# Altium schematic symbol library rf_new.SchLib: 6 symbols
Pins are listed as number, name and electrical type; pins without a type are passive.

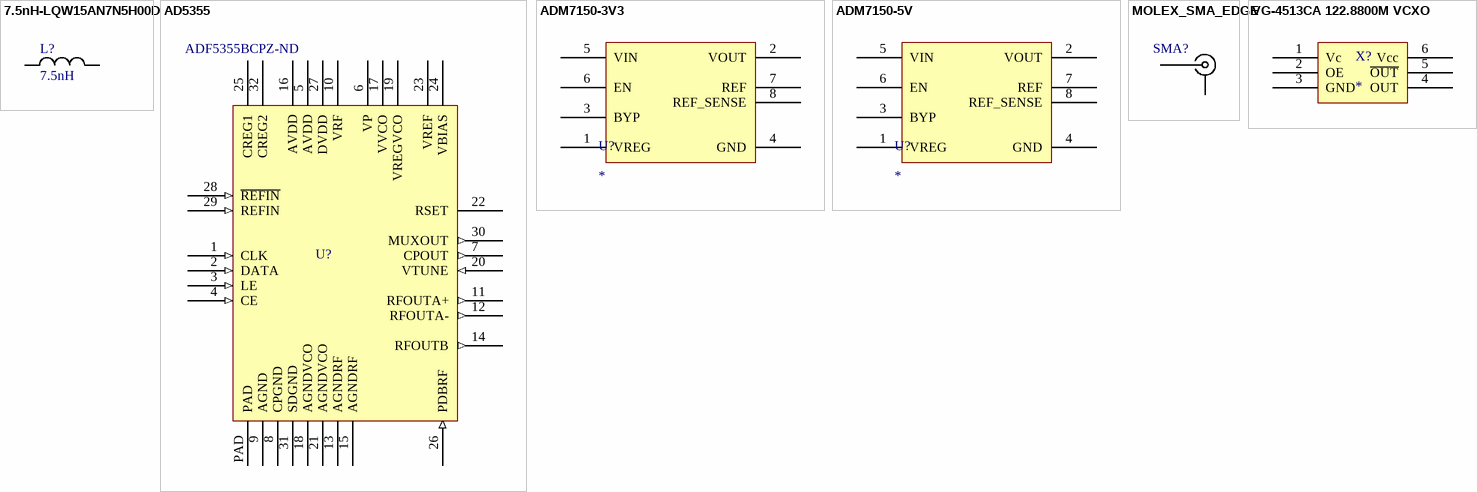
[diagram p0: symbols 7.5nH-LQW15AN7N5H00D to VG-4513CA 122.8800M VCXO]

## 7.5nH-LQW15AN7N5H00D
designator L?, comment 7.5nH
Supplier 1: Digi-Key; Supplier Part Number 1: 490-6847-1-ND
footprint 0402_INDUCTOR (Chip Inductor, 2-Leads, Body 1.00x0.50mm, IPC Medium Density)
pins: 1, 2

## AD5355
designator U?  Supplier Part Number 1: ADF5355BCPZ-ND  (hidden comment: AD5355)
Supplier 1: Digi-Key
footprint AD5355_LFCSP32 (QFN, 32-Leads, Body 5.00x5.00mm, Pitch 0.50mm, Thermal Pad 3.65x3.65mm, IPC Low Density)
pins: 1 CLK (in), 2 DATA (in), 3 LE (in), 4 CE (in), 5 AVDD (power), 6 VP (power), 7 CPOUT (out), 8 CPGND (power), 9 AGND (power), 10 VRF (power), 11 RFOUTA+ (out), 12 RFOUTA- (out), 13 AGNDRF (power), 14 RFOUTB (out), 15 AGNDRF (power), 16 AVDD (power), 17 VVCO (power), 18 AGNDVCO (power), 19 VREGVCO (power), 20 VTUNE (in), 21 AGNDVCO (power), 22 RSET, 23 VREF (power), 24 VBIAS (power), 25 CREG1, 26 PDBRF (in), 27 DVDD (power), 28 ~{REFIN} (in), 29 REFIN (in), 30 MUXOUT (out), 31 SDGND (power), 32 CREG2 (power), PAD (power)

## ADM7150-3V3
designator U?
Supplier 1: Digi-Key; Supplier Part Number 1: ADM7150ARDZ-3.3-ND
footprint ADM7150_SOIC8EP (SOIC, 8-Leads, Body 4.90x3.90mm, Pitch 1.27mm, Thermal Pad 3.10x2.41mm, IPC Low Density)
pins: 1 VREG, 2 VOUT, 3 BYP, 4 GND, 5 VIN, 6 EN, 7 REF, 8 REF_SENSE

## ADM7150-5V
designator U?
Supplier 1: Digi-Key; Supplier Part Number 1: ADM7150ARDZ-5.0-ND
footprint ADM7150_SOIC8EP (SOIC, 8-Leads, Body 4.90x3.90mm, Pitch 1.27mm, Thermal Pad 3.10x2.41mm, IPC Low Density)
pins: 1 VREG, 2 VOUT, 3 BYP, 4 GND, 5 VIN, 6 EN, 7 REF, 8 REF_SENSE

## MOLEX_SMA_EDGE
designator SMA?  (value not drawn)
Supplier 1: Digi-Key; Supplier Part Number 1: WM5534-ND
footprint MOLEX_SMA_EDGE
pins: 1, 2

## VG-4513CA 122.8800M VCXO
designator X?
Supplier 1: Digi-Key; Supplier Part Number 1: SER3906CT-ND
footprint VG-4513CA-VCXO
pins: 1 Vc, 2 OE, 3 GND, 4 OUT, 5 ~{OUT}, 6 Vcc